# EAGLE library part MINIFITJR6PIN (library OpenPMSM)
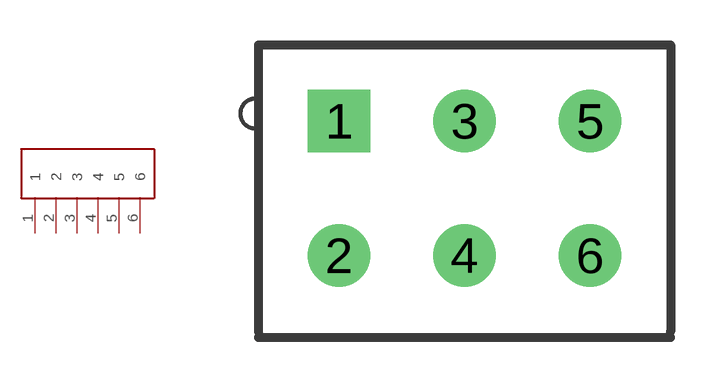
[diagram p2: symbol with the pads of 0039288060; footprint 0039288060]

Designator prefix -

## MINIFITJR6PIN  [0039288060]
1  1
2  2
3  3
4  4
5  5
6  6

## Footprint 0039288060 (pad centres in mm)
drill 1.4 square: 1 -4.2,2.25
drill 1.4: 2 -4.2,-2.25; 3 0,2.25; 4 0,-2.25; 5 4.2,2.25; 6 4.2,-2.25